# Altium footprint library Pcblib_20110825.Pcblib: 408 footprints (part 3 of 26)
Each footprint in its own frame and in the unit in brackets; x right, y up, seen from the top. Pads: shape width x height; smd on the part's side, far side on the other; paste and mask are expansions set on the pad; w line width, h text height; cw(c..) or ccw(c..) is an arc to the next point about the centre after c.
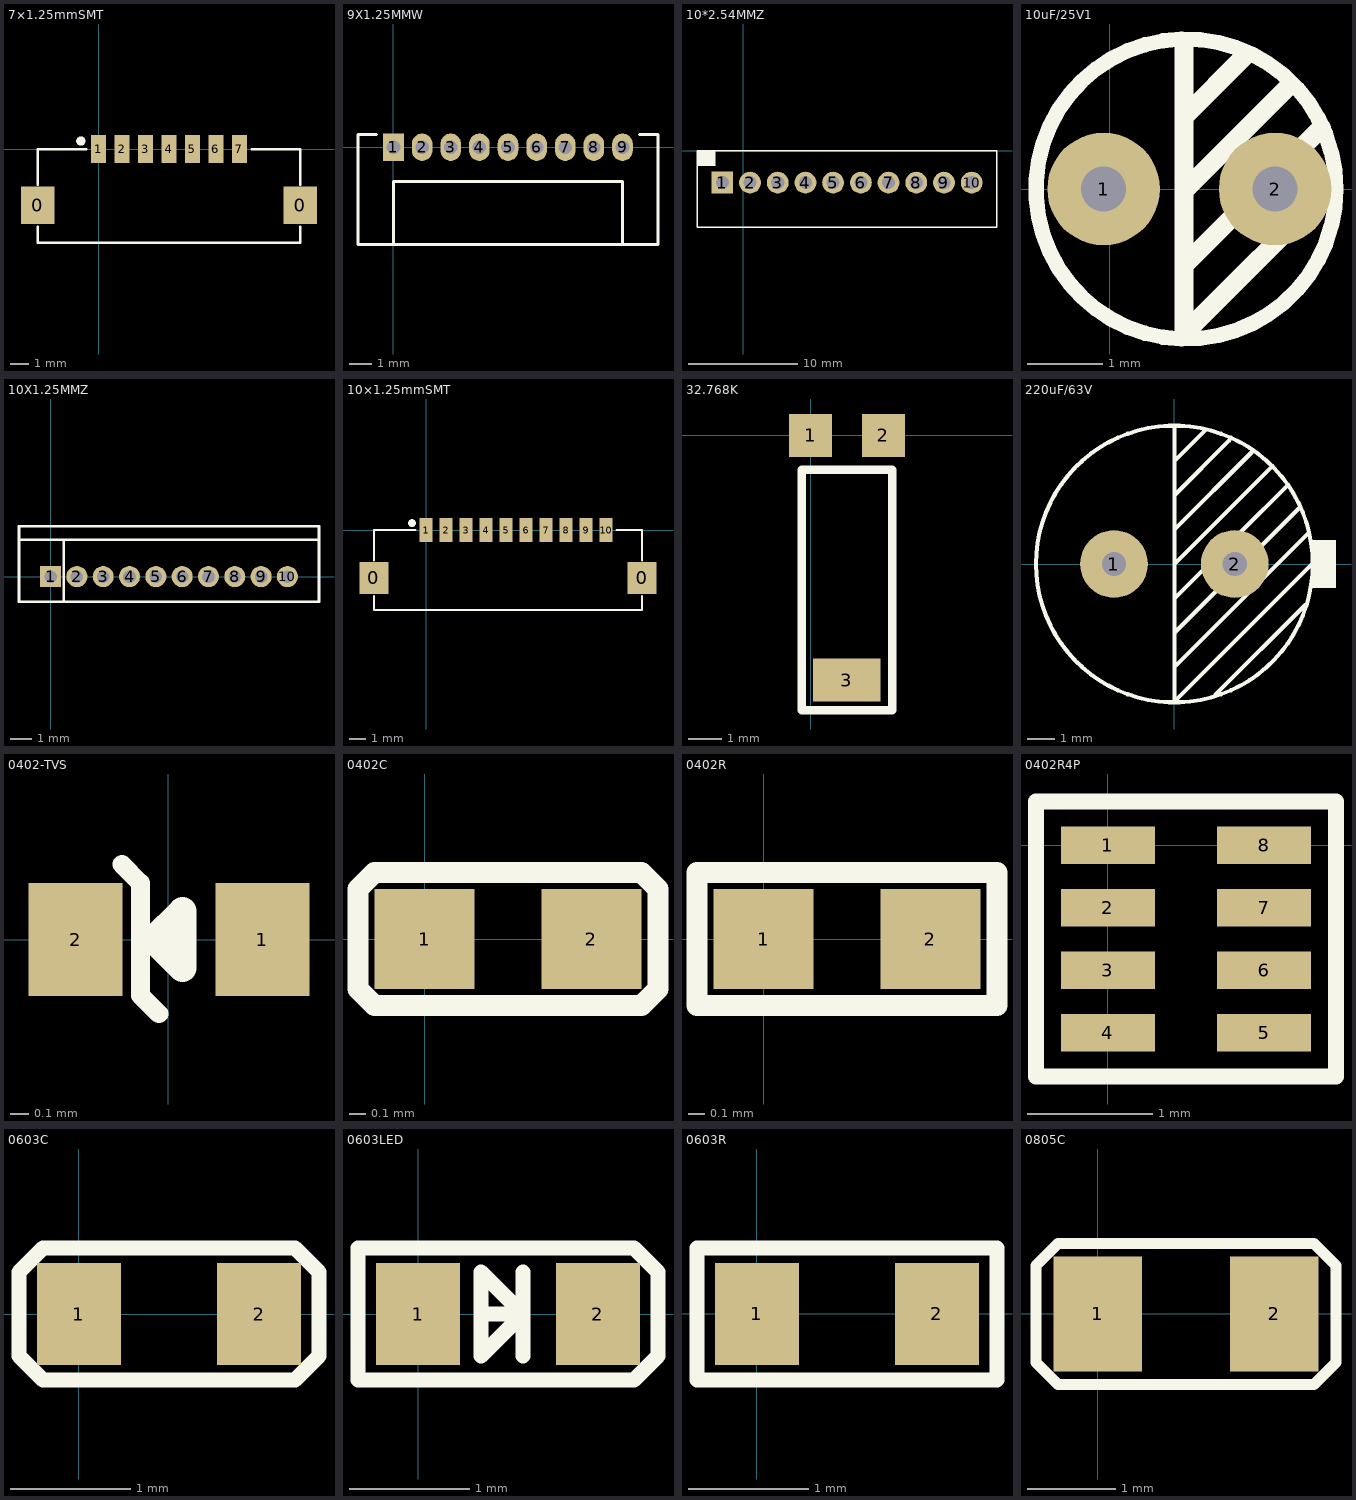
[diagram p2: the footprints below, top view; thin cyan lines are the x and y axes]

## 7×1.25mmSMT [mm]
pads (10):
  rect 1.8x2 smd: 0(-3.25,-3) 0(10.75,-3)
  rect 0.8x1.5 smd: 1(0,0) 2(1.25,0) 3(2.5,0) 4(3.75,0) 5(5,0) 6(6.25,0) 7(7.5,0)
  round 0.5 on Top Overlay: ""(-0.95,0.432)
TopOverlay:
  lines w0.127: -3.25,-4.13 -3.25,-5 10.75,-5 10.75,-4.13 ; -3.25,-1.895 -3.25,0 -0.65,0 ; 8.15,0 10.75,0 10.75,-1.895

## 9X1.25MMW [mm]
pads (9):
  rect 0.9x1.2 hole 0.6: 1(0,0)
  oval 0.9x1.2 hole 0.6: 2(1.25,0) 3(2.5,0) 4(3.75,0) 5(5,0) 6(6.25,0) 7(7.5,0) 8(8.75,0) 9(10,0)
TopOverlay:
  lines w0.127: -0.75,0.55 -1.55,0.55 -1.55,-4.25 11.55,-4.25 11.55,0.55 10.75,0.55 ; 0,-4.25 0,-1.5 10,-1.5 10,-4.25

## 10*2.54MMZ [mm]
pads (10):
  rect 2x2 hole 1.2: 1(-1.905,-2.921)
  round 2 hole 1.2: 2(0.635,-2.921) 3(3.175,-2.921) 4(5.715,-2.921) 5(8.255,-2.921) 6(10.795,-2.921) 7(13.335,-2.921) 8(15.875,-2.921) 9(18.415,-2.921) 10(20.955,-2.921)
TopOverlay:
  rectangle: -4.225,-1.394 -2.54,-0.018
  lines w0.127: -4.225,-7 -4.225,-0.021 23.275,-0.021 23.275,-7 -4.225,-7

## 10uF/25V1 [mm]
height 29
pads (2):
  round 1.5 hole 0.6: 1(-0.08,0) 2(2.206,0)
TopOverlay:
  circle w0.203: c1.019,0 r2
  lines w0.254: 0.994,-1.956 0.994,1.956 ; 0.994,-1.016 2.823,0.813 ; 0.994,-0.025 2.391,1.372 ; 0.994,0.965 1.807,1.778 ; 1.045,-1.88 2.975,0.051

## 10X1.25MMZ [mm]
pads (10):
  rect 1x1 hole 0.6: 1(0,0)
  round 1 hole 0.6: 2(1.25,0) 3(2.5,0) 4(3.75,0) 5(5,0) 6(6.25,0) 7(7.5,0) 8(8.75,0) 9(10,0) 10(11.25,0)
TopOverlay:
  lines w0.127: -1.5,1.75 12.75,1.75 ; 0.625,-1.2 0.625,1.75 ; -1.5,-1.2 12.75,-1.2 12.75,2.4 -1.5,2.4 -1.5,-1.2

## 10×1.25mmSMT [mm]
pads (13):
  rect 1.8x2 smd: 0(-3.25,-3) 0(13.5,-3)
  rect 0.8x1.5 smd: 1(0,0) 2(1.25,0) 3(2.5,0) 4(3.75,0) 5(5,0) 6(6.25,0) 7(7.5,0) 8(8.75,0) 9(10,0) 10(11.25,0)
  round 0.5 on Top Overlay: ""(-0.875,0.432)
TopOverlay:
  lines w0.127: -3.25,-4.13 -3.25,-5 13.5,-5 13.5,-4.13 ; -3.25,-1.895 -3.25,0 -0.65,0 ; 11.9,0 13.5,0 13.5,-1.895

## 32.768K [mm]
height 1.4
pads (3):
  rect 1.27x1.27 smd: 1(0,0) 2(2.159,0)
  rect 2x1.27 smd: 3(1.07,-7.239)
TopOverlay:
  lines w0.254: -0.254,-8.128 2.413,-8.128 2.413,-1.016 -0.254,-1.016 -0.254,-8.128

## 220uF/63V [mm]
height 29
pads (2):
  round 2.5 hole 0.9: 1(-2.23,0) 2(2.23,0)
TopOverlay:
  circle w0.152: c0,0 r5.11
  rectangle: 5.08,-0.889 5.969,0.889
  lines w0.152: 0,-3.81 4.953,1.143 ; 0,-2.54 4.635,2.095 2.921,0.381 ; 0,-1.27 3.302,2.032 ; 0,0 3.619,3.619 ; 0,1.27 2.857,4.127 ; 0,2.54 2.032,4.572 ; 0,3.81 1.143,4.953 ; 0,5.08 0,-5.08 5.08,0 ; 1.524,-4.826 4.826,-1.524 ; 2.286,1.016 4.191,2.921

## 0402-TVS [mil] "0402-TVS"
pads (2):
  rect 20x24 smd: 1(20,0) 2(-19.68,0)
TopOverlay:
  lines w4: -9.84,16 -5.91,12 -5.91,-11.81 -1.97,-15.75
  lines w6: -3,0 3,0 ; -3,0 3,-6 3,0 ; -3,0 3,6 3,0

## 0402C [mm]
pads (2):
  rect 0.6x0.6 smd: 1(0,0) 2(1,0)
TopOverlay:
  lines w0.127: -0.4,-0.3 -0.4,0.3 ; -0.4,-0.3 -0.4,-0.3 ; -0.4,-0.3 -0.3,-0.4 1.3,-0.4 ; -0.4,0.3 -0.4,0.3 ; -0.4,0.3 -0.3,0.4 1.3,0.4 1.4,0.3 ; 1.3,-0.4 1.3,-0.4 ; 1.3,-0.4 1.4,-0.3 ; 1.4,-0.3 1.4,0.3 ; 1.4,-0.3 1.4,-0.3 ; 1.4,0.3 1.4,0.3

## 0402R [mm]
pads (2):
  rect 0.6x0.6 smd: 1(0,0) 2(1,0)
TopOverlay:
  lines w0.127: -0.4,-0.4 -0.4,0.4 1.4,0.4 1.4,-0.4 -0.4,-0.4

## 0402R4P [mm]
pads (8):
  rect 0.75x0.3 smd: 1(0,0) 2(0,-0.5) 3(0,-1) 4(0,-1.5) 5(1.25,-1.5) 6(1.25,-1) 7(1.25,-0.5) 8(1.25,0)
TopOverlay:
  lines w0.127: -0.575,-1.85 -0.575,0.35 1.825,0.35 1.825,-1.85 -0.575,-1.85

## 0603C [mm]
pads (2):
  rect 0.7x0.85 smd: 1(0,0) 2(1.5,0)
TopOverlay:
  lines w0.127: -0.5,-0.35 -0.3,-0.55 1.8,-0.55 2,-0.35 2,0.35 1.8,0.55 -0.3,0.55 -0.5,0.35 -0.5,-0.35

## 0603LED [mm]
pads (2):
  rect 0.7x0.85 smd: 1(0,0) 2(1.5,0)
TopOverlay:
  lines w0.127: 0.525,0 0.875,0 ; 0.875,-0.35 0.875,0.35 ; 0.875,0 0.525,-0.35 0.525,0.35 0.875,0 ; -0.5,-0.55 1.8,-0.55 2,-0.35 2,0.35 1.8,0.55 -0.5,0.55 -0.5,-0.55

## 0603R [mm]
pads (2):
  rect 0.7x0.85 smd: 1(0,0) 2(1.5,0)
TopOverlay:
  lines w0.127: -0.5,-0.55 -0.5,0.55 2,0.55 2,-0.55 -0.5,-0.55

## 0805C [mm]
pads (2):
  rect 1x1.3 smd: 1(0,0) 2(2,0)
TopOverlay:
  lines w0.127: 2.45,-0.8 -0.45,-0.8 -0.7,-0.55 -0.7,0.55 -0.45,0.8 2.45,0.8 2.7,0.55 2.7,-0.55 2.45,-0.8 ; 2.45,-0.8 2.45,-0.8